# EAGLE library part UBLOX_MAX-6 (library avaHabLbr)
UBLOX MAX-6
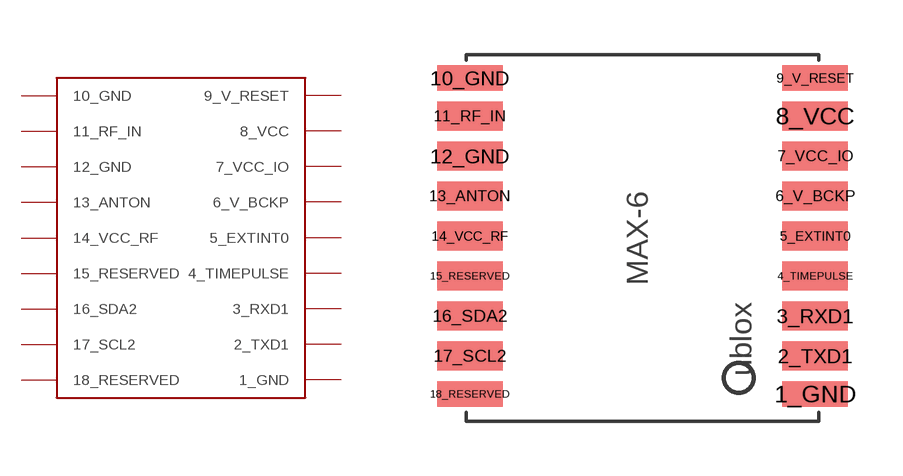
[diagram p6: symbol with the pads of UBLOX_MAX-6; footprint UBLOX_MAX-6]

Designator prefix -

## UBLOX_MAX-6  [UBLOX_MAX-6]
1_GND  1_GND  pwr
2_TXD1  2_TXD1
3_RXD1  3_RXD1
4_TIMEPULSE  4_TIMEPULSE
5_EXTINT0  5_EXTINT0
6_V_BCKP  6_V_BCKP
7_VCC_IO  7_VCC_IO  pwr
8_VCC  8_VCC  pwr
9_V_RESET  9_V_RESET  pwr
10_GND  10_GND  pwr
11_RF_IN  11_RF_IN
12_GND  12_GND  pwr
13_ANTON  13_ANTON
14_VCC_RF  14_VCC_RF
15_RESERVED  15_RESERVED
16_SDA2  16_SDA2
17_SCL2  17_SCL2
18_RESERVED  18_RESERVED

## Footprint UBLOX_MAX-6 (pad centres in mm)
uBlox MAX-6
smd 1.8 x 0.7: 1_GND 4.95,-4.4; 9_V_RESET 4.95,4.3; 10_GND -4.55,4.3; 18_RESERVED -4.55,-4.4
smd 1.8 x 0.8: 2_TXD1 4.95,-3.35; 3_RXD1 4.95,-2.25; 4_TIMEPULSE 4.95,-1.15; 5_EXTINT0 4.95,-0.05; 6_V_BCKP 4.95,1.05; 7_VCC_IO 4.95,2.15; 8_VCC 4.95,3.25; 11_RF_IN -4.55,3.25; 12_GND -4.55,2.15; 13_ANTON -4.55,1.05; 14_VCC_RF -4.55,-0.05; 15_RESERVED -4.55,-1.15; 16_SDA2 -4.55,-2.25; 17_SCL2 -4.55,-3.35